# EAGLE library part PCA9621D (library stutz-components-library)
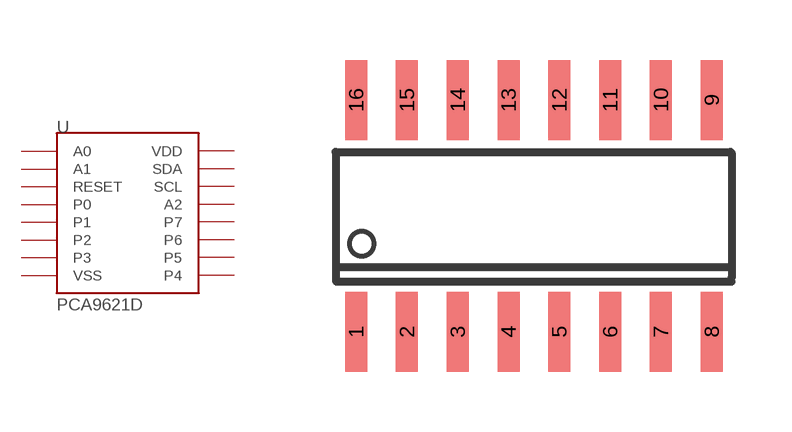
[diagram p3: symbol with the pads of SO16; footprint SO16]

Designator prefix -

## PCA9621D  [SO16]
1  A0  in
2  A1  in
3  RESET  in
4  P0  out
5  P1  out
6  P2  out
7  P3  out
8  VSS  pwr
9  P4  out
10  P5  out
11  P6  out
12  P7  out
13  A2  in
14  SCL
15  SDA
16  VDD  pwr

## Footprint SO16 (pad centres in mm)
smd 0.55 x 2: 1 -4.445,-2.9; 2 -3.175,-2.9; 3 -1.905,-2.9; 4 -0.635,-2.9; 5 0.635,-2.9; 6 1.905,-2.9; 7 3.175,-2.9; 8 4.445,-2.9; 9 4.445,2.9; 10 3.175,2.9; 11 1.905,2.9; 12 0.635,2.9; 13 -0.635,2.9; 14 -1.905,2.9; 15 -3.175,2.9; 16 -4.445,2.9